# EAGLE library part LTC2452 (library LTC2452)
LTC2452 16 bit ΣΔ ADC Differential input, SPI interface SOT-23-8 and DFN-8 packages available
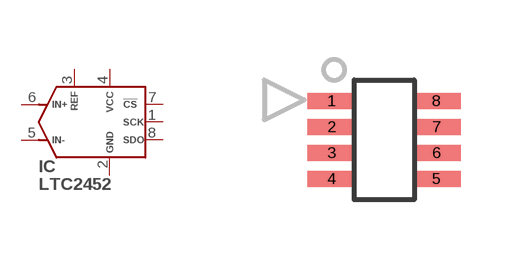
[diagram p0: symbol with the pads of TSOT-23-8; footprint TSOT-23-8]

Designator prefix IC

## LTC2452CTS8  [TSOT-23-8]
1  SCK  in
2  GND  pwr
3  REF  in
4  VCC  pwr
5  INN  in
6  INP  in
7  !CS  in
8  SDO  out

## Footprint TSOT-23-8 (pad centres in mm)
smd 1.22 x 0.4: 1 -1.31,0.975; 2 -1.31,0.325; 3 -1.31,-0.325; 4 -1.31,-0.975; 5 1.31,-0.975; 6 1.31,-0.325; 7 1.31,0.325; 8 1.31,0.975